# EAGLE library part MMA7455L (library m_ic-signal)
Freescale Semiconductor ±2g/±4g/±8g Three Axis Low-g Digital Output Accelerometer The MMA7455L is a Digital Output (I2C/SPI), low power, low profile capacitive micromachined accelerometer featuring signal conditioning, a low pass filter, temperature compensation, self-test, configurable to detect 0g through interrupt pins (INT1 or INT2), and pulse detect for quick motion detection. 0g offset and sensitivity are factory set and require no external devices. The 0g offset can be customer calibrated using assigned 0g registers and g-Select which allows for command selection for 3 acceleration ranges (2g/4g/8g). The MMA7455L includes a Standby Mode that makes it ideal for handheld battery powered electronics. Features Digital Output (I2C/SPI) 3mm x 5mm x 1mm LGA-14 Package Self-Test for Z-Axis Low Voltage Operation: 2.4 V ? 3.6 V User Assigned Registers for Offset Calibration Programmable Threshold Interrupt Output Level Detection for Motion Recognition (Shock, Vibration, Freefall) Pulse Detection for Single or Double Pulse Recognition Sensitivity (64 LSB/g @ 2g and @ 8g in 10-Bit Mode) Selectable Sensitivity (±2g, ±4g, ±8g) for 8-bit Mode Robust Design, High Shocks Survivability (5,000g) RoHS Compliant Environmentally Preferred Product Low Cost
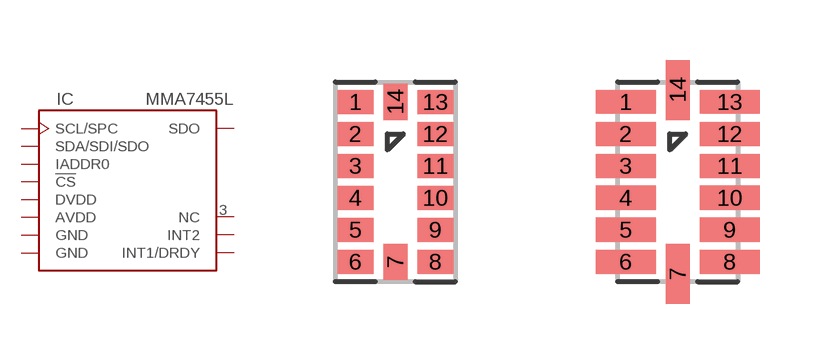
[diagram p2: symbol with the pads of LGA-14; footprints LGA-14, LGA-14-LARGEPAD]

Designator prefix IC

## MMA7455L (PARTNUM: MMA7455L)  [LGA-14]
1  DVDD  pas
2  GND  pas
3  NC  pas
4  IADDR0  pas
5  GND  pas
6  AVDD  pas
7  !CS  pas
8  INT1/DRDY  pas
9  INT2  pas
12  SDO  out
13  SDA/SDI/SDO
14  SCL/SPC  in

## MMA7455LLARGEPAD (PARTNUM: MMA7455L)  [LGA-14-LARGEPAD]
Pads as for LGA-14

## Footprint LGA-14 (pad centres in mm)
smd 0.9 x 0.6: 1 -1,2; 2 -1,1.2; 3 -1,0.4; 4 -1,-0.4; 5 -1,-1.2; 6 -1,-2; 8 1,-2; 9 1,-1.2; 10 1,-0.4; 11 1,0.4; 12 1,1.2; 13 1,2
smd 0.6 x 0.9: 7 0,-2; 14 0,2

## Footprint LGA-14-LARGEPAD (pad centres in mm)
smd 1.5 x 0.6: 1 -1.3,2; 2 -1.3,1.2; 3 -1.3,0.4; 4 -1.3,-0.4; 5 -1.3,-1.2; 6 -1.3,-2; 8 1.3,-2; 9 1.3,-1.2; 10 1.3,-0.4; 11 1.3,0.4; 12 1.3,1.2; 13 1.3,2
smd 0.6 x 1.5: 7 0,-2.3; 14 0,2.3